# Altium schematic symbol library DGH105Q5R5.Schlib: 1 symbol
Pins are listed as number, name and electrical type; pins without a type are passive.

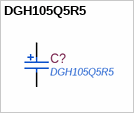
[diagram p0: symbol DGH105Q5R5]

## DGH105Q5R5
designator C?
CAPACITOR 1F -10% +30% 5.5V TH; Manufacturer 1: CDE Illinois Capacitor; Supplier 1: Digi-Key; Manufacturer Part Number 1: DGH105Q5R5; Stock 1: 7797; Pricing 1: 1=2.84000, 10=2.29600, 100=1.75350, 500=1.33600, 1000=1.16900, 2500=1.12725, 5000=1.08550 (USD); RoHS: No; ComponentLink1URL: http://www.illinoiscapacitor.com/pdf/seriesDocuments/DGH%20series.pdf?src-supplier=Digi-Key; ComponentLink1Description: http://www.illinoiscapacitor.com/pdf/seriesDocuments/DGH%20series.pdf?src-supplier=Digi-Key; Supplier Part Number 1: 1572-1771-ND
footprint DGH105Q5R5 (Supercapacitor 5.5V Radial)
pins: 1, 2